# EAGLE library part SIM800H (library ICs)
GSM/Bluetooth CSD, GPRS 2G 1800MHz, 900MHz 85.6kbps
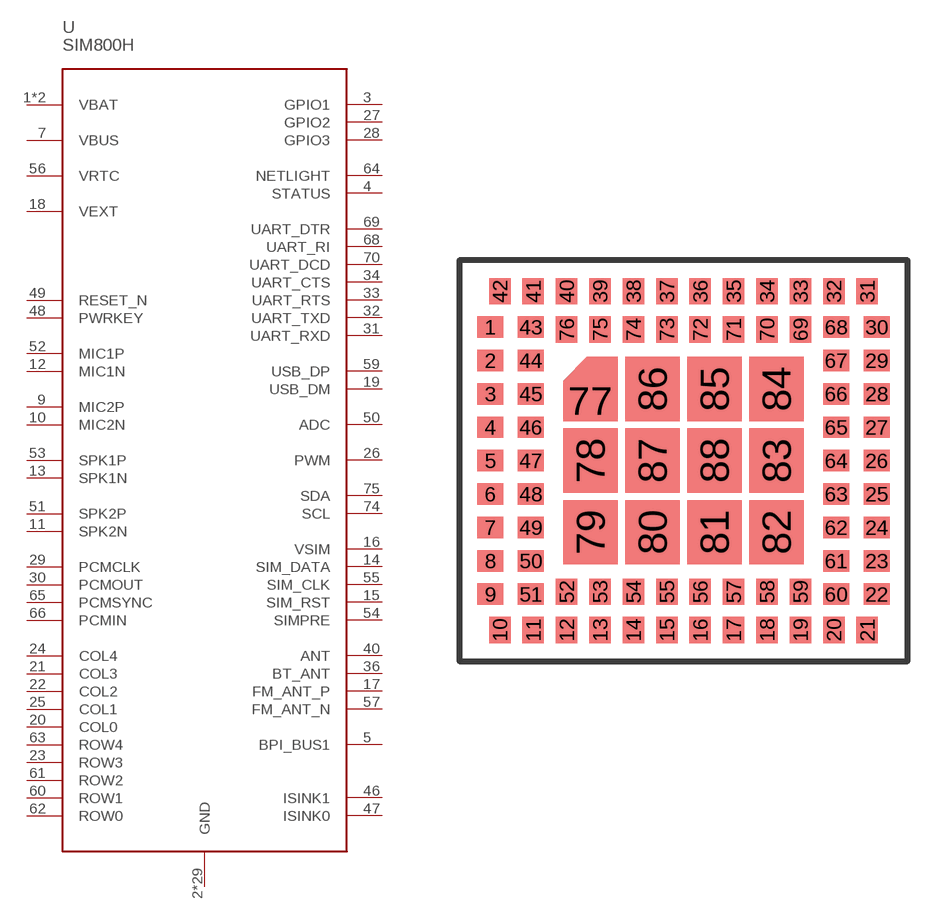
[diagram p153: symbol with the pads of SIM800H; footprint SIM800H]

Designator prefix U

## SIM800H (PRICE_PER: 9.12; VALUE: SIM800H)  [SIM800H]
1  VBAT
2  GND
3  GPIO1
4  STATUS
5  BPI_BUS1
6  GND
7  VBUS
8  GND
9  MIC2P
10  MIC2N
11  SPK2N
12  MIC1N
13  SPK1N
14  SIM_DATA
15  SIM_RST
16  VSIM
17  FM_ANT_P
18  VEXT
19  USB_DM
20  COL0
21  COL3
22  COL2
23  ROW3
24  COL4
25  COL1
26  PWM
27  GPIO2
28  GPIO3
29  PCMCLK
30  PCMOUT
31  UART_RXD
32  UART_TXD
33  UART_RTS
34  UART_CTS
35  GND
36  BT_ANT
37  GND
38  GND
39  GND
40  ANT
41  GND
42  VBAT
43  GND
44  GND
45  GND
46  ISINK1
47  ISINK0
48  PWRKEY
49  RESET_N
50  ADC
51  SPK2P
52  MIC1P
53  SPK1P
54  SIMPRE
55  SIM_CLK
56  VRTC
57  FM_ANT_N
58  GND
59  USB_DP
60  ROW1
61  ROW2
62  ROW0
63  ROW4
64  NETLIGHT
65  PCMSYNC
66  PCMIN
67  GND
68  UART_RI
69  UART_DTR
70  UART_DCD
71  GND
72  GND
73  GND
74  SCL
75  SDA
76  GND
77  GND
78  GND
79  GND
80  GND
81  GND
82  GND
83  GND
84  GND
85  GND
86  GND
87  GND
88  GND

## Footprint SIM800H (pad centres in mm)
smd 1.1 x 0.9: 1 -8.1,5.6; 2 -8.1,4.2; 3 -8.1,2.8; 4 -8.1,1.4; 5 -8.1,0; 6 -8.1,-1.4; 7 -8.1,-2.8; 8 -8.1,-4.2; 9 -8.1,-5.6; 22 8.1,-5.6; 23 8.1,-4.2; 24 8.1,-2.8; 25 8.1,-1.4; 26 8.1,0; 27 8.1,1.4; 28 8.1,2.8; 29 8.1,4.2; 30 8.1,5.6; 43 -6.4,5.6; 44 -6.4,4.2; 45 -6.4,2.8; 46 -6.4,1.4; 47 -6.4,0; 48 -6.4,-1.4; 49 -6.4,-2.8; 50 -6.4,-4.2; 51 -6.4,-5.6; 60 6.4,-5.6; 61 6.4,-4.2; 62 6.4,-2.8; 63 6.4,-1.4; 64 6.4,0; 65 6.4,1.4; 66 6.4,2.8; 67 6.4,4.2; 68 6.4,5.6
smd 0.9 x 1.1: 10 -7.7,-7.1; 11 -6.3,-7.1; 12 -4.9,-7.1; 13 -3.5,-7.1; 14 -2.1,-7.1; 15 -0.7,-7.1; 16 0.7,-7.1; 17 2.1,-7.1; 18 3.5,-7.1; 19 4.9,-7.1; 20 6.3,-7.1; 21 7.7,-7.1; 31 7.7,7.1; 32 6.3,7.1; 33 4.9,7.1; 34 3.5,7.1; 35 2.1,7.1; 36 0.7,7.1; 37 -0.7,7.1; 38 -2.1,7.1; 39 -3.5,7.1; 40 -4.9,7.1; 41 -6.3,7.1; 42 -7.7,7.1; 52 -4.9,-5.5; 53 -3.5,-5.5; 54 -2.1,-5.5; 55 -0.7,-5.5; 56 0.7,-5.5; 57 2.1,-5.5; 58 3.5,-5.5; 59 4.9,-5.5; 69 4.9,5.5; 70 3.5,5.5; 71 2.1,5.5; 72 0.7,5.5; 73 -0.7,5.5; 74 -2.1,5.5; 75 -3.5,5.5; 76 -4.9,5.5
smd 2.3 x 1.7: 77 -3.9,2.5
smd 2.3 x 2.7: 78 -3.9,0; 79 -3.9,-3; 80 -1.3,-3; 81 1.3,-3; 82 3.9,-3; 83 3.9,0; 84 3.9,3; 85 1.3,3; 86 -1.3,3; 87 -1.3,0; 88 1.3,0